# Altium schematic symbol library m68k.SchLib: 102 symbols (part 2 of 3)
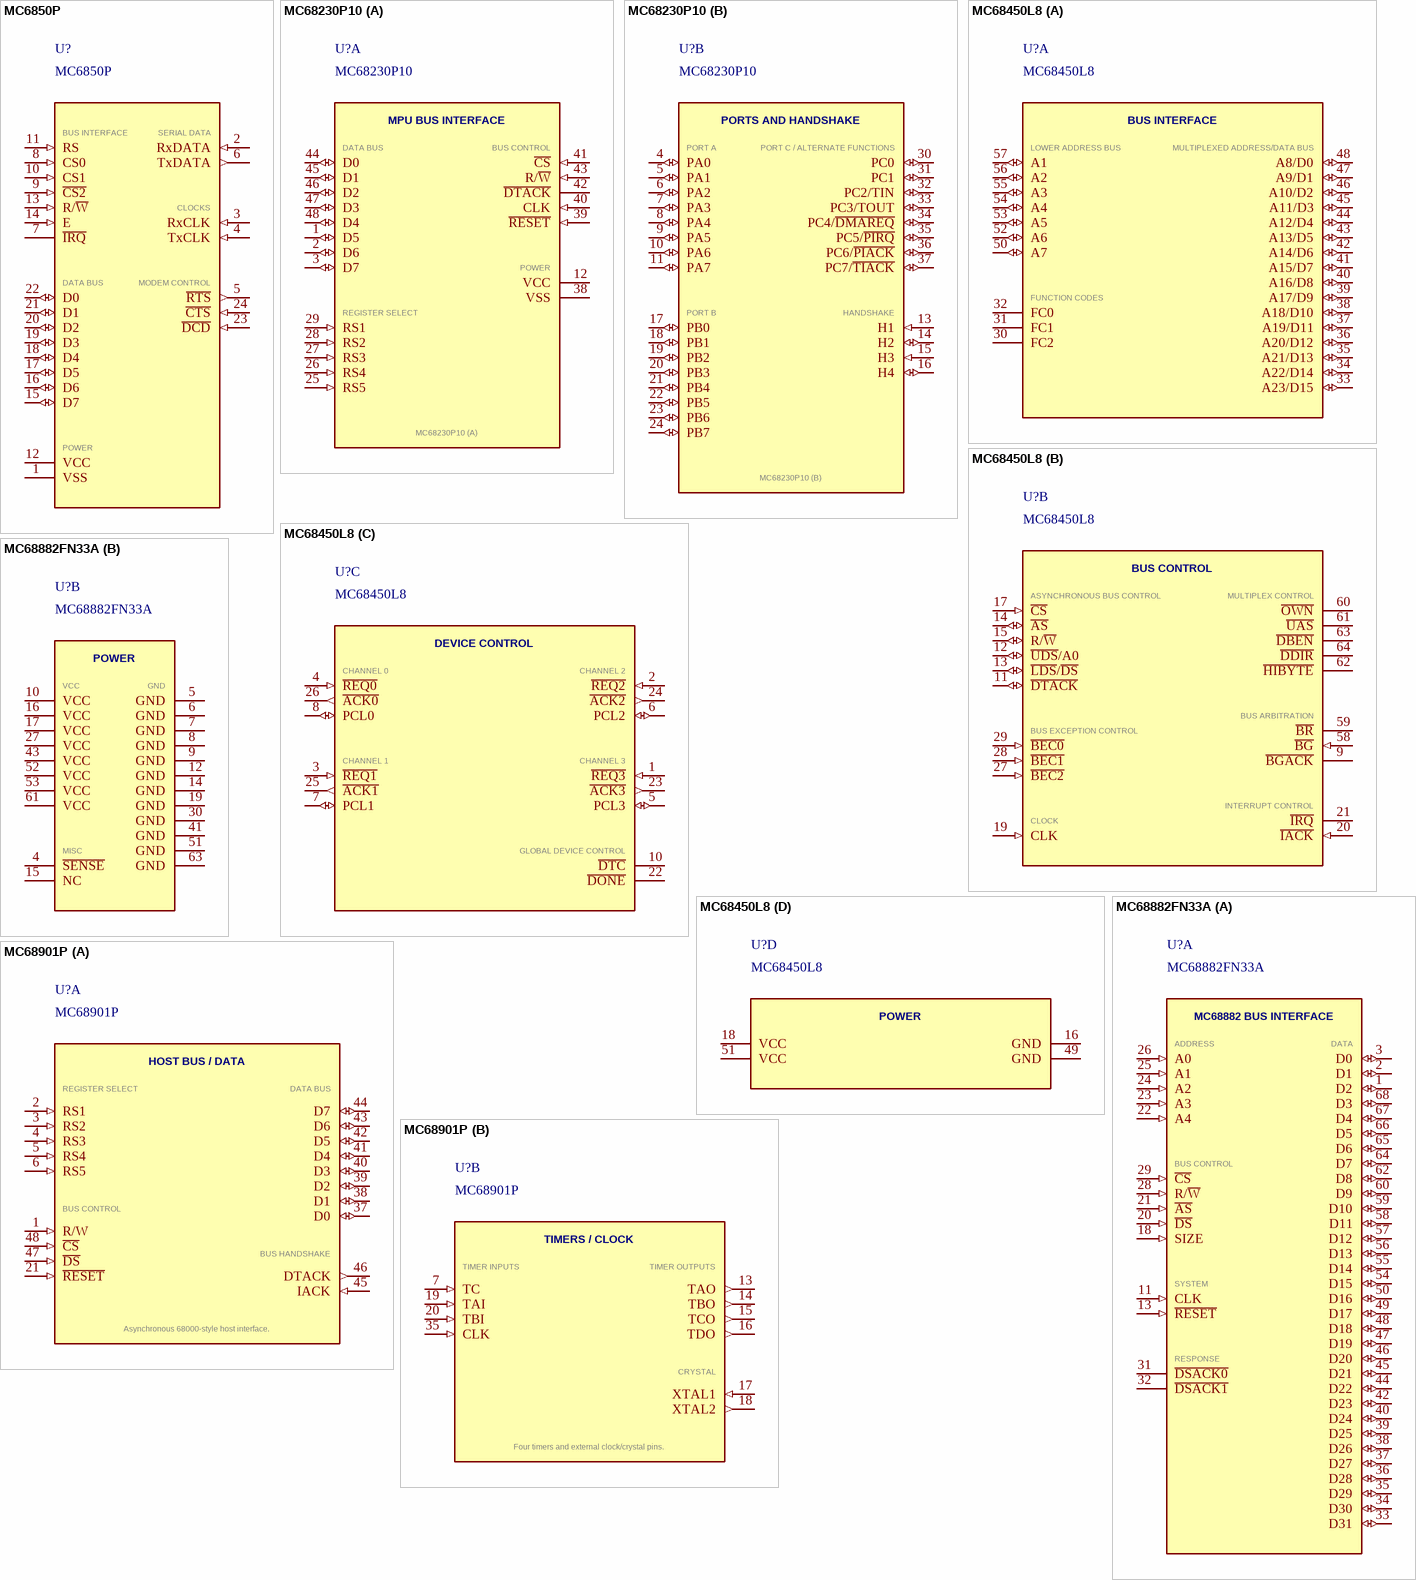
[diagram p6: symbols MC6850P to MC68901P]

## MC68450L8
designator U?
Motorola MC68450 Direct Memory Access Controller (DMAC), 8 MHz, 4 independent DMA channels, 24-bit address / 16-bit data multiplexed M68000 bus; Symbol Parts: A: BUS INTERFACE; B: BUS CONTROL; C: DEVICE CONTROL; D: POWER; Manufacturer: Motorola; Manufacturer Part Number: MC68450L8; Package: 64-lead ceramic dual-in-line (L suffix, DIP-64); Datasheet: MC68450L8.pdf - M68000 Family Reference Manual, MC68450 Technical Summary, pages 6-39..6-74
footprint 110-43-964-41-001000 (Mill-Max 110-43-964-41-001000, 64-position (2 x 32) DIP socket, screw-machine pin receptacles, 2.54 mm (.100") pitch, 22.86 mm (.900") row spacing, through hole. Body 81.2 x 25.3 mm per Mill-Max 110 series drawing. 64 plated 0.90 mm holes / 1.60 mm round pads; pad 1 square. Origin at body center, top view. Pin 1 top left, DIP numbering counter-clockwise. TopOverlay silkscreen, M2 component outline, M9 assembly, M11 designator, M15 courtyard.)
part A pins: 30 FC2 (hiz) "Function code bit 2. Three-state output, active high, qualifies the DMA-mode address to select one of eight address spaces.", 31 FC1 (hiz) "Function code bit 1. Three-state output, active high, qualifies the DMA-mode address to select one of eight address spaces.", 32 FC0 (hiz) "Function code bit 0. Three-state output, active high, qualifies the DMA-mode address to select one of eight address spaces.", 33 A23/D15 (io) "Time-multiplexed address bit 23 / data bit 15. Three-state; demultiplexed externally under UAS/DBEN/DDIR control.", 34 A22/D14 (io) "Time-multiplexed address bit 22 / data bit 14. Three-state; demultiplexed externally under UAS/DBEN/DDIR control.", 35 A21/D13 (io) "Time-multiplexed address bit 21 / data bit 13. Three-state; demultiplexed externally under UAS/DBEN/DDIR control.", 36 A20/D12 (io) "Time-multiplexed address bit 20 / data bit 12. Three-state; demultiplexed externally under UAS/DBEN/DDIR control.", 37 A19/D11 (io) "Time-multiplexed address bit 19 / data bit 11. Three-state; demultiplexed externally under UAS/DBEN/DDIR control.", 38 A18/D10 (io) "Time-multiplexed address bit 18 / data bit 10. Three-state; demultiplexed externally under UAS/DBEN/DDIR control.", 39 A17/D9 (io) "Time-multiplexed address bit 17 / data bit 9. Three-state; demultiplexed externally under UAS/DBEN/DDIR control.", 40 A16/D8 (io) "Time-multiplexed address bit 16 / data bit 8. Three-state; demultiplexed externally under UAS/DBEN/DDIR control.", 41 A15/D7 (io) "Time-multiplexed address bit 15 / data bit 7. Three-state; demultiplexed externally under UAS/DBEN/DDIR control.", 42 A14/D6 (io) "Time-multiplexed address bit 14 / data bit 6. Three-state; demultiplexed externally under UAS/DBEN/DDIR control.", 43 A13/D5 (io) "Time-multiplexed address bit 13 / data bit 5. Three-state; demultiplexed externally under UAS/DBEN/DDIR control.", 44 A12/D4 (io) "Time-multiplexed address bit 12 / data bit 4. Three-state; demultiplexed externally under UAS/DBEN/DDIR control.", 45 A11/D3 (io) "Time-multiplexed address bit 11 / data bit 3. Three-state; demultiplexed externally under UAS/DBEN/DDIR control.", 46 A10/D2 (io) "Time-multiplexed address bit 10 / data bit 2. Three-state; demultiplexed externally under UAS/DBEN/DDIR control.", 47 A9/D1 (io) "Time-multiplexed address bit 9 / data bit 1. Three-state; demultiplexed externally under UAS/DBEN/DDIR control.", 48 A8/D0 (io) "Time-multiplexed address bit 8 / data bit 0. Three-state; demultiplexed externally under UAS/DBEN/DDIR control.", 50 A7 (io) "Lower address bus bit 7. Bidirectional three-state: addresses internal DMAC registers in MPU mode, drives lower address in DMA mode.", 52 A6 (io) "Lower address bus bit 6. Bidirectional three-state: addresses internal DMAC registers in MPU mode, drives lower address in DMA mode.", 53 A5 (io) "Lower address bus bit 5. Bidirectional three-state: addresses internal DMAC registers in MPU mode, drives lower address in DMA mode.", 54 A4 (io) "Lower address bus bit 4. Bidirectional three-state: addresses internal DMAC registers in MPU mode, drives lower address in DMA mode.", 55 A3 (io) "Lower address bus bit 3. Bidirectional three-state: addresses internal DMAC registers in MPU mode, drives lower address in DMA mode.", 56 A2 (io) "Lower address bus bit 2. Bidirectional three-state: addresses internal DMAC registers in MPU mode, drives lower address in DMA mode.", 57 A1 (io) "Lower address bus bit 1. Bidirectional three-state: addresses internal DMAC registers in MPU mode, drives lower address in DMA mode."
part B pins: 9 ~{BGACK} (oc) "Bus grant acknowledge. Active-low open-drain bidirectional; asserted by the DMAC to claim bus mastership and monitored as an input to detect other masters. Requires an external pullup.", 11 ~{DTACK} (io) "Data transfer acknowledge. Active-low bidirectional three-state; output in MPU mode, input in DMA mode. Requires an external pullup.", 12 ~{UDS}/A0 (io) "Upper data strobe in 16-bit mode (active low); address bit 0 in 8-bit mode. Bidirectional three-state, requires an external pullup.", 13 ~{LDS}/~{DS} (io) "Lower data strobe in 16-bit mode; data strobe in 8-bit mode. Active-low bidirectional three-state, requires an external pullup.", 14 ~{AS} (io) "Address strobe. Active-low bidirectional three-state; output in DMA mode, input in MPU/IDLE modes. Requires an external pullup.", 15 R/~{W} (io) "Read/write. Bidirectional three-state; high = read, low = write. Requires an external pullup.", 17 ~{CS} (in) "Chip select. Active-low input; selects the DMAC for an MPU bus cycle. Generate by qualifying an address decode with the address and data strobes.", 19 CLK (in) "Clock input. TTL-compatible; must not be gated off and must meet the minimum and maximum pulse-width specifications.", 20 ~{IACK} (in) "Interrupt acknowledge. Active-low input from the MPU; the DMAC responds by placing a vector on D0-D7.", 21 ~{IRQ} (oc) "Interrupt request. Active-low open-drain output asserted by the DMAC to request service from the MPU. Requires an external pullup.", 27 ~{BEC2} (in) "Bus exception control bit 2. Active-low input; encoded abnormal bus condition (bus error, reset, halt, retry).", 28 ~{BEC1} (in) "Bus exception control bit 1. Active-low input; encoded abnormal bus condition (bus error, reset, halt, retry).", 29 ~{BEC0} (in) "Bus exception control bit 0. Active-low input; encoded abnormal bus condition (bus error, reset, halt, retry).", 58 ~{BG} (in) "Bus grant. Active-low input from an external bus arbiter. The DMAC takes the bus only after CS, IACK, AS and BGACK are all negated.", 59 ~{BR} (oc) "Bus request. Active-low open-drain output asserted by the DMAC to request control of the bus.", 60 ~{OWN} (oc) "Bus ownership. Active-low output; enables the external address drivers and control-signal buffers when the DMAC controls the bus. Requires an external pullup.", 61 ~{UAS} (hiz) "Upper address strobe. Active-low three-state output; gates the transparent latches that capture A8-A23 from the multiplexed address/data bus. Requires an external pullup.", 62 ~{HIBYTE} (hiz) "High byte. Active-low three-state output; indicates data on D8-D15 must be transferred to/from D0-D7 through an external buffer during a single-address transfer with an 8-bit device. Requires an external pullup.", 63 ~{DBEN} (hiz) "Data buffer enable. Active-low three-state output; enables the external bidirectional data buffers. Requires an external pullup.", 64 ~{DDIR} (hiz) "Data direction. Three-state output controlling the external bidirectional data buffers; high = DMAC to data bus, low = data bus to DMAC. Requires an external pullup."
part C pins: 1 ~{REQ3} (in) "Channel 3 transfer request. Active-low input from the peripheral; edge sensitive in cycle-steal request mode, level sensitive in burst mode.", 2 ~{REQ2} (in) "Channel 2 transfer request. Active-low input from the peripheral; edge sensitive in cycle-steal request mode, level sensitive in burst mode.", 3 ~{REQ1} (in) "Channel 1 transfer request. Active-low input from the peripheral; edge sensitive in cycle-steal request mode, level sensitive in burst mode.", 4 ~{REQ0} (in) "Channel 0 transfer request. Active-low input from the peripheral; edge sensitive in cycle-steal request mode, level sensitive in burst mode.", 5 PCL3 (io) "Channel 3 peripheral control line. Bidirectional three-state, programmed polarity/function: ready, abort, reload, status, interrupt or enable clock input, or start pulse output.", 6 PCL2 (io) "Channel 2 peripheral control line. Bidirectional three-state, programmed polarity/function: ready, abort, reload, status, interrupt or enable clock input, or start pulse output.", 7 PCL1 (io) "Channel 1 peripheral control line. Bidirectional three-state, programmed polarity/function: ready, abort, reload, status, interrupt or enable clock input, or start pulse output.", 8 PCL0 (io) "Channel 0 peripheral control line. Bidirectional three-state, programmed polarity/function: ready, abort, reload, status, interrupt or enable clock input, or start pulse output.", 10 ~{DTC} (hiz) "Data transfer complete. Active-low three-state output asserted during any DMAC bus cycle in which data was transferred successfully. Requires an external pullup.", 22 ~{DONE} (oc) "Done. Active-low open-drain bidirectional, asserted by the DMAC or the peripheral to mark the last item in a block. A 1k-2k ohm pullup is required to prevent interchannel interaction.", 23 ~{ACK3} (out) "Channel 3 acknowledge. Active-low, always-driven output signalling that an operand is being transferred for a previous request.", 24 ~{ACK2} (out) "Channel 2 acknowledge. Active-low, always-driven output signalling that an operand is being transferred for a previous request.", 25 ~{ACK1} (out) "Channel 1 acknowledge. Active-low, always-driven output signalling that an operand is being transferred for a previous request.", 26 ~{ACK0} (out) "Channel 0 acknowledge. Active-low, always-driven output signalling that an operand is being transferred for a previous request."
part D pins: 16 GND (power) "Ground. Both GND pins must be connected.", 18 VCC (power) "+5 V supply. Both VCC pins must be connected.", 49 GND (power) "Ground. Both GND pins must be connected.", 51 VCC (power) "+5 V supply. Both VCC pins must be connected."
part A text: BUS INTERFACE; LOWER ADDRESS BUS; MULTIPLEXED ADDRESS/DATA BUS; FUNCTION CODES
part B text: BUS CONTROL; ASYNCHRONOUS BUS CONTROL; MULTIPLEX CONTROL; BUS ARBITRATION; BUS EXCEPTION CONTROL; INTERRUPT CONTROL; CLOCK
part C text: DEVICE CONTROL; CHANNEL 0; CHANNEL 2; CHANNEL 1; CHANNEL 3; GLOBAL DEVICE CONTROL
part D text: POWER

## MC68882FN33A
designator U?
MC68882 Floating-Point Coprocessor, 33 MHz, 68-pin PLCC (FN); Manufacturer: Motorola (now NXP); Symbol Parts: A: MC68882 BUS INTERFACE; B: POWER; Manufacturer Part Number: MC68882FN33A; Package: 68-pin PLCC (FN suffix); Datasheet: Pinout from user-supplied MC68882 PLCC top-view diagram
footprint A-CCS-068-Z-T (Assmann A-CCS 068-Z-T, PLCC-68 THT socket for MC68EC000; ASS 0981 CO rev11; body 30.80 x 30.80 mm; 2.54 mm PCB grid; 68 plated 0.80 mm holes / 1.60 mm pads; pin 1 top center, top view; M2 component outline, M9 assembly, M11 designator, M15 courtyard; user component layer pairs; maximum height 8.43 mm.)
part A pins: 1 D2 (io), 2 D1 (io), 3 D0 (io), 11 CLK (in) "Clock", 13 ~{RESET} (in) "Reset", 18 SIZE (in) "Bus size select; used with A0 to set 8/16/32-bit port size. Shown without overbar in the supplied diagram.", 20 ~{DS} (in) "Data strobe", 21 ~{AS} (in) "Address strobe", 22 A4 (in), 23 A3 (in), 24 A2 (in), 25 A1 (in), 26 A0 (in), 28 R/~{W} (in) "Read/write", 29 ~{CS} (in) "Chip select", 31 ~{DSACK0} (hiz) "Data transfer and size acknowledge 0", 32 ~{DSACK1} (hiz) "Data transfer and size acknowledge 1", 33 D31 (io), 34 D30 (io), 35 D29 (io), 36 D28 (io), 37 D27 (io), 38 D26 (io), 39 D25 (io), 40 D24 (io), 42 D23 (io), 44 D22 (io), 45 D21 (io), 46 D20 (io), 47 D19 (io), 48 D18 (io), 49 D17 (io), 50 D16 (io), 54 D15 (io), 55 D14 (io), 56 D13 (io), 57 D12 (io), 58 D11 (io), 59 D10 (io), 60 D9 (io), 62 D8 (io), 64 D7 (io), 65 D6 (io), 66 D5 (io), 67 D4 (io), 68 D3 (io)
part B pins: 4 ~{SENSE} "Device sense; internally connected to die GND. May be used as an extra GND or as a presence indicator.", 5 GND (power), 6 GND (power), 7 GND (power), 8 GND (power), 9 GND (power), 10 VCC (power), 12 GND (power), 14 GND (power), 15 NC "No connect", 16 VCC (power), 17 VCC (power), 19 GND (power), 27 VCC (power), 30 GND (power), 41 GND (power), 43 VCC (power), 51 GND (power), 52 VCC (power), 53 VCC (power), 61 VCC (power), 63 GND (power)
part A text: MC68882 BUS INTERFACE; ADDRESS; DATA; BUS CONTROL; SYSTEM; RESPONSE
part B text: POWER; MISC

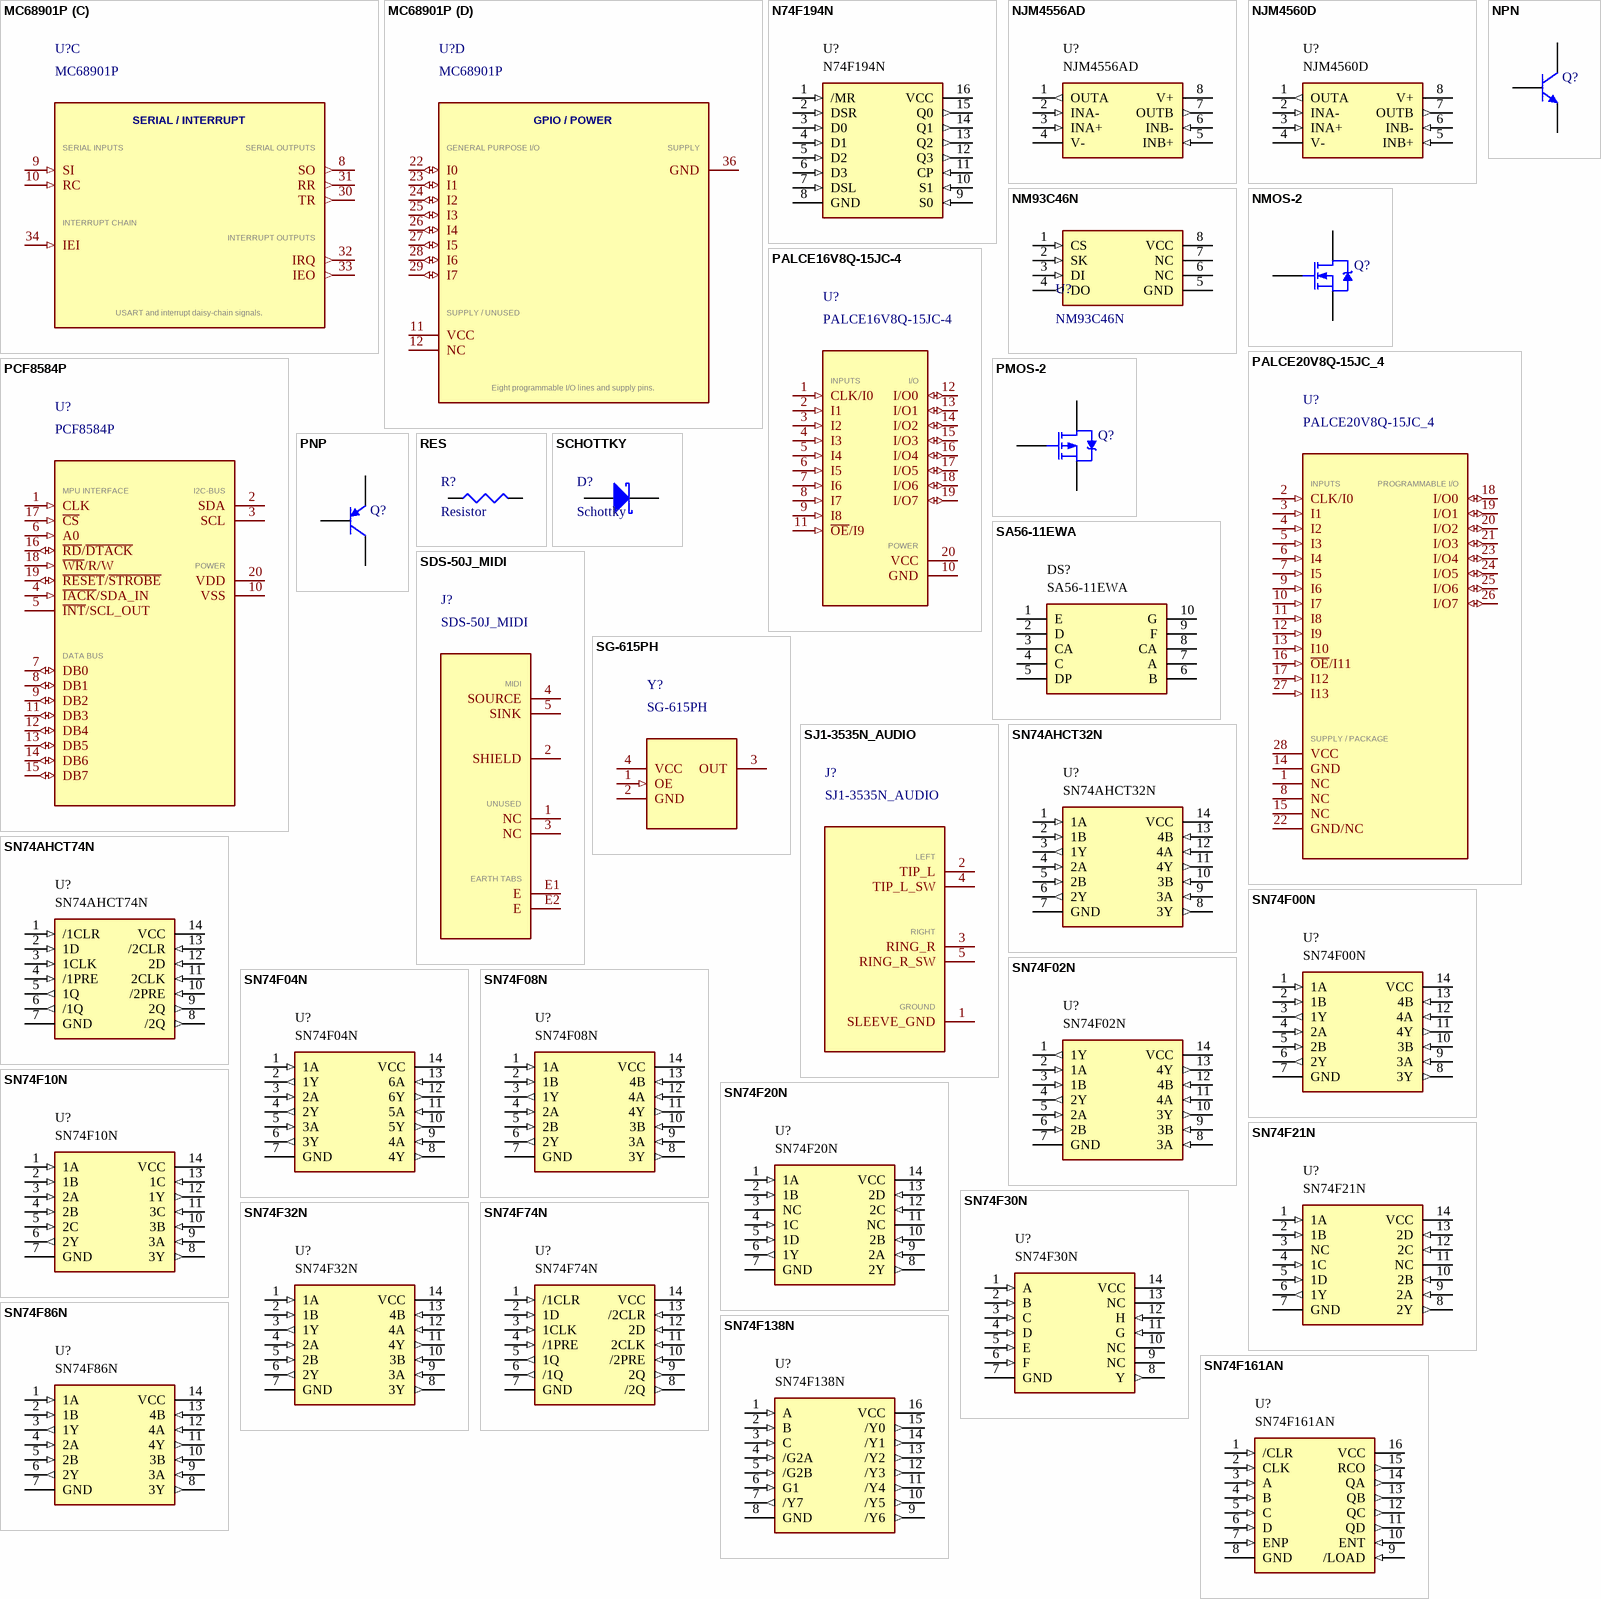
[diagram p4: symbols MC68901P to SN74F161AN]

## MC68901P
designator U?
Motorola MC68901P Multi-Function Peripheral (MFP), 48-pin plastic DIP. Four functional symbol parts with all physical pins visible.; Symbol Parts: A: HOST BUS / DATA; B: TIMERS / CLOCK; C: SERIAL / INTERRUPT; D: GPIO / POWER; Pin Source: User-supplied 48-pin top-view diagram cross-checked against the MC68HC901/MC68901 User's Manual.; Active-Low Pins: CS#, DS#, RESET#; Manufacturer: Motorola; Manufacturer Part Number: MC68901P; Package: 48-pin PDIP (Case 767-01); Datasheet: https://www.nxp.com/docs/en/reference-manual/MC68901UM.pdf
footprint 110-93-648-41-001000 (Mill-Max 110 open-frame DIP socket; 48 pins; pitch 2.54mm; row 15.24mm; plated hole 0.80mm; pad 1.60mm; center origin)
part A pins: 1 R/W (in) "Read/write control input.", 2 RS1 (in) "Register select input.", 3 RS2 (in) "Register select input.", 4 RS3 (in) "Register select input.", 5 RS4 (in) "Register select input.", 6 RS5 (in) "Register select input.", 21 ~{RESET} (in) "Active-low hardware reset.", 37 D0 (io) "Bidirectional data bus.", 38 D1 (io) "Bidirectional data bus.", 39 D2 (io) "Bidirectional data bus.", 40 D3 (io) "Bidirectional data bus.", 41 D4 (io) "Bidirectional data bus.", 42 D5 (io) "Bidirectional data bus.", 43 D6 (io) "Bidirectional data bus.", 44 D7 (io) "Bidirectional data bus.", 45 IACK (in) "Interrupt-acknowledge input.", 46 DTACK (out) "Data-transfer acknowledge output.", 47 ~{DS} (in) "Active-low data strobe.", 48 ~{CS} (in) "Active-low chip select."
part B pins: 7 TC (in) "Timer clock input.", 13 TAO (out) "Timer A output.", 14 TBO (out) "Timer B output.", 15 TCO (out) "Timer C output.", 16 TDO (out) "Timer D output.", 17 XTAL1 (in) "Crystal/clock input.", 18 XTAL2 (out) "Crystal oscillator output.", 19 TAI (in) "Timer A input.", 20 TBI (in) "Timer B input.", 35 CLK (in) "System clock input."
part C pins: 8 SO (out) "Serial data output.", 9 SI (in) "Serial data input.", 10 RC (in) "Receive clock input.", 30 TR (out) "Transmitter-ready output.", 31 RR (out) "Receiver-ready output.", 32 IRQ (out) "Interrupt request output.", 33 IEO (out) "Interrupt-enable output for daisy chain.", 34 IEI (in) "Interrupt-enable input for daisy chain."
part D pins: 11 VCC (power) "+5 V supply.", 12 NC "No connect; leave unconnected.", 22 I0 (io) "General-purpose I/O bit 0.", 23 I1 (io) "General-purpose I/O bit 1.", 24 I2 (io) "General-purpose I/O bit 2.", 25 I3 (io) "General-purpose I/O bit 3.", 26 I4 (io) "General-purpose I/O bit 4.", 27 I5 (io) "General-purpose I/O bit 5.", 28 I6 (io) "General-purpose I/O bit 6.", 29 I7 (io) "General-purpose I/O bit 7.", 36 GND (power) "Ground connection."
part A text: HOST BUS / DATA; REGISTER SELECT; DATA BUS; BUS CONTROL; BUS HANDSHAKE; Asynchronous 68000-style host interface.
part B text: TIMERS / CLOCK; TIMER INPUTS; TIMER OUTPUTS; CRYSTAL; Four timers and external clock/crystal pins.
part C text: SERIAL / INTERRUPT; SERIAL INPUTS; SERIAL OUTPUTS; INTERRUPT CHAIN; INTERRUPT OUTPUTS; USART and interrupt daisy-chain signals.
part D text: GPIO / POWER; GENERAL PURPOSE I/O; SUPPLY; SUPPLY / UNUSED; Eight programmable I/O lines and supply pins.

## N74F194N
designator U?
4-bit bidirectional universal shift register; SourcePDF: 74f194.pdf; fairchild-fast-1980.pdf; SourcePages: 1; ReviewNotes: DIP map; review active-low notation and electrical types before PCB use.; ReviewStatus: DRAFT - user review pending; Package: DIP-16
footprint 110-93-316-41-001000 (Mill-Max 110 open-frame DIP socket; 16 pins; pitch 2.54mm; row 7.62mm; plated hole 0.80mm; pad 1.60mm; center origin)
pins: 1 /MR (in), 2 DSR (in), 3 D0 (in), 4 D1 (in), 5 D2 (in), 6 D3 (in), 7 DSL (in), 8 GND (power), 9 S0 (in), 10 S1 (in), 11 CP (in), 12 Q3 (out), 13 Q2 (out), 14 Q1 (out), 15 Q0 (out), 16 VCC (power)

## NJM4556AD
designator U?
Dual high-current operational amplifier; SourcePDF: NJM4556A_E.pdf; SourcePages: 1; ReviewNotes: Draft symbol; user pinout review pending.; ReviewStatus: DRAFT - user review pending; Package: DIP-8
footprint 110-93-308-41-001000 (Mill-Max 110 open-frame DIP socket; 8 pins; pitch 2.54mm; row 7.62mm; plated hole 0.80mm; pad 1.60mm; center origin)
pins: 1 OUTA (out), 2 INA- (in), 3 INA+ (in), 4 V- (power), 5 INB+ (in), 6 INB- (in), 7 OUTB (out), 8 V+ (power)

## NJM4560D
designator U?
Dual operational amplifier; SourcePDF: NJM4556A_E.pdf; SourcePages: 1; ReviewNotes: Draft symbol; user pinout review pending.; ReviewStatus: DRAFT - user review pending; Package: DIP-8
footprint 110-93-308-41-001000 (Mill-Max 110 open-frame DIP socket; 8 pins; pitch 2.54mm; row 7.62mm; plated hole 0.80mm; pad 1.60mm; center origin)
pins: 1 OUTA (out), 2 INA- (in), 3 INA+ (in), 4 V- (power), 5 INB+ (in), 6 INB- (in), 7 OUTB (out), 8 V+ (power)

## NM93C46N
designator U?
footprint 110-93-308-41-001000 (Mill-Max 110 open-frame DIP socket; 8 pins; pitch 2.54mm; row 7.62mm; plated hole 0.80mm; pad 1.60mm; center origin)
pins: 1 CS (in), 2 SK (in), 3 DI (in), 4 DO (out), 5 GND (power), 6 NC, 7 NC, 8 VCC (power)

## NMOS-2
designator Q?
N-Channel Power MOSFET; Note: Pin 2 is electrically connected to pin 4.; Published: 8-Jun-2000; LatestRevisionDate: 17-Jul-2002; LatestRevisionNote: Re-released for DXP Platform.; DatasheetVersion: PD-9.814; PackageVersion: Feb-1997; PackageReference: TO-220AB; Publisher: Altium Limited; PackageDescription: TO, Thru-Hole, Vertical, Heatsink Mounted; 3 In-Line Leads; Pitch 2.54 mm; ComponentLink1Description: Manufacturer Link; ComponentLink1URL: http://www.irf.com/
pins: 1 G, 2 D, 3 S

## NPN
designator Q?
NPN Bipolar Transistor; Published: 8-Jun-2000; LatestRevisionDate: 17-Jul-2002; LatestRevisionNote: Re-released for DXP Platform.; PackageReference: TO-226-AA; Publisher: Altium Limited; PackageDescription: TO, Flat Index; 3 In-Line, Axial Leads; Body Dia. 4.8mm; Leads 0.55 x 0.51 mm (max); Code_JEDEC: TO-226-AA
pins: 1 C, 2 B, 3 E

## PALCE16V8Q-15JC-4
designator U?
CMOS EE Programmable Array Logic, 16 array inputs / 8 versatile outputs, quarter power, 15 ns tPD, commercial, 20-pin PLCC. Ordering MPN PALCE16V8Q-15JC/4 (/4 = first-revision programming algorithm).; Manufacturer: Advanced Micro Devices; Manufacturer Part Number: PALCE16V8Q-15JC/4; Package: PLCC-20
footprint A-CCS-020-Z-T (Assmann WSW A-CCS 020-Z-T, PLCC-20 THT socket; drawing ASS 0981 CO rev11 sheet 1/2. From drawing: body 15.45 x 15.45 mm, 2.54 mm PCB grid, 20 plated 0.80 mm holes, max height 8.21 mm. Chosen (not on drawing): 1.60 mm round pads (square on pin 1), 0.075 mm mask expansion. Pin 1 top centre, top view, origin at body centre; JEDEC PLCC counter-clockwise numbering (drawing shows no pin numbers). M2 component outline, M9 assembly, M11 designator, M15 courtyard.)
pins: 1 CLK/I0 (in) "Registered mode: clock. Combinatorial mode: dedicated input I0", 2 I1 (in), 3 I2 (in), 4 I3 (in), 5 I4 (in), 6 I5 (in), 7 I6 (in), 8 I7 (in), 9 I8 (in), 10 GND (power), 11 ~{OE}/I9 (in) "Registered mode: active-low output enable for the registered outputs. Combinatorial mode: dedicated input I9", 12 I/O0 (io), 13 I/O1 (io), 14 I/O2 (io), 15 I/O3 (io), 16 I/O4 (io), 17 I/O5 (io), 18 I/O6 (io), 19 I/O7 (io), 20 VCC (power)
text: INPUTS; I/O; POWER

## PALCE20V8Q-15JC_4
designator U?
PALCE20V8Q-15JC/4, quarter-power programmable logic device, 28-pin PLCC (top-view pin numbering); Manufacturer: Lattice Semiconductor; Manufacturer Part Number: PALCE20V8Q-15JC/4; Package: PLCC-28 (PL028); Datasheet: https://www.latticesemi.com/-/media/LatticeSemi/Documents/DataSheets/PAL/PALCE20V8DataSheet.ashx?la=en
footprint A-CCS-028-Z-T (ASSMANN WSW 28-contact PLCC THT socket; ASS 0981 CO rev11 sheet 2. 18 x 18 mm body; 7.62 mm inner grid span; 2.54 mm tail pitch. Numbering assumes pin 1 at top near center and counterclockwise sequence; source does not label the tails. Copper pads 1.60 mm are a layout choice; drawing specifies 0.80 mm drill only.)
pins: 1 NC, 2 CLK/I0 (in), 3 I1 (in), 4 I2 (in), 5 I3 (in), 6 I4 (in), 7 I5 (in), 8 NC, 9 I6 (in), 10 I7 (in), 11 I8 (in), 12 I9 (in), 13 I10 (in), 14 GND (power), 15 NC, 16 ~{OE}/I11 (in) "Output enable (active low), or general input I11, according to programmed mode.", 17 I12 (in), 18 I/O0 (io), 19 I/O1 (io), 20 I/O2 (io), 21 I/O3 (io), 22 GND/NC "Manufacturer diagram labels this package pin GND/NC*; its designation depends on device variant. Do not treat it as the primary ground pin.", 23 I/O4 (io), 24 I/O5 (io), 25 I/O6 (io), 26 I/O7 (io), 27 I13 (in), 28 VCC (power)
text: INPUTS; PROGRAMMABLE I/O; SUPPLY / PACKAGE

## PCF8584P
designator U?
I2C-bus controller, parallel microcontroller bus to I2C-bus interface, DIP20; Manufacturer: NXP Semiconductors (Philips); Manufacturer Part Number: PCF8584P; Package: DIP20 (SOT146-1), plastic dual in-line, 20 leads, 300 mil; Datasheet: https://www.nxp.com/docs/en/data-sheet/PCF8584.pdf
footprint 110-93-320-41-001000 (Mill-Max 110 open-frame DIP socket; 20 pins; pitch 2.54mm; row 7.62mm; plated hole 0.80mm; pad 1.60mm; center origin)
pins: 1 CLK (in) "Clock input from the microcontroller clock generator; internal pull-up. Must be running for RESET to take effect.", 2 SDA (oc) "I2C-bus serial data input/output, open-drain; needs an external pull-up. In long distance mode this pin is the unidirectional serial data output SDA OUT.", 3 SCL (oc) "I2C-bus serial clock input/output, open-drain; needs an external pull-up. In long distance mode this pin is the unidirectional serial clock input SCL IN.", 4 ~{IACK}/SDA_IN (in) "Interrupt acknowledge input, active LOW; internal pull-up. In long distance mode this pin is the serial data input SDA IN.", 5 ~{INT}/SCL_OUT (oc) "Interrupt output, open-drain, active LOW, enabled by the ENI flag. In long distance mode this pin is the serial clock output SCL OUT and ENI must be 0.", 6 A0 (in) "Register select input; internal pull-up. Logic 1 selects register S1; logic 0 selects one of the other registers depending on bits ES0, ES1 and ES2 in S1.", 7 DB0 (io) "Bidirectional microcontroller data bus bit 0.", 8 DB1 (io) "Bidirectional microcontroller data bus bit 1.", 9 DB2 (io) "Bidirectional microcontroller data bus bit 2.", 10 VSS (power) "Ground.", 11 DB3 (io) "Bidirectional microcontroller data bus bit 3.", 12 DB4 (io) "Bidirectional microcontroller data bus bit 4.", 13 DB5 (io) "Bidirectional microcontroller data bus bit 5.", 14 DB6 (io) "Bidirectional microcontroller data bus bit 6.", 15 DB7 (io) "Bidirectional microcontroller data bus bit 7.", 16 ~{RD}/~{DTACK} (io) "Read control input (active LOW) for MAB8049, MAB8051 and Z80 type buses; open-drain DTACK acknowledge output in 68000 bus mode.", 17 ~{CS} (in) "Chip select input, active LOW; internal pull-up.", 18 ~{WR}/R/W (in) "Write control input (active LOW) for MAB8048, MAB8051 and Z80 type buses; R/W control input for 68000 buses. Internal pull-up.", 19 ~{RESET}/~{STROBE} (io) "Open-drain. Reset input, active LOW (CLK must run). Also a monostable active-LOW strobe output, 8 clock cycles long, when addressed by its own or the general call address followed by a STOP.", 20 VDD (power) "Supply voltage, 5 V nominal."
text: MPU INTERFACE; I2C-BUS; POWER; DATA BUS

## PMOS-2
designator Q?
P-Channel Power MOSFET; Note: Pin 4 not drawn and electrically connected to Pin 2.; Published: 8-Jun-2000; LatestRevisionDate: 17-Jul-2002; LatestRevisionNote: Re-released for DXP Platform.; DatasheetVersion: PD-9.390D; PackageVersion: Feb-1997; PackageReference: TO-220AB; Publisher: Altium Limited; PackageDescription: TO, Thru-Hole, Vertical, Heatsink Mounted; 3 In-Line Leads; Pitch 2.54 mm; ComponentLink1Description: Manufacturer Link; ComponentLink1URL: http://www.irf.com/
pins: 1 G, 2 D, 3 S

## PNP
designator Q?
PNP Bipolar Transistor; Published: 8-Jun-2000; LatestRevisionDate: 29-May-2009; LatestRevisionNote: IPC-7351 Footprint Added.; PackageVersion: Aug-1999; PackageReference: SOT-23B; Publisher: Altium Limited; PackageDescription: 3-Pin SOT-23 Package 0.95 mm Pitch, 2.4 mm Lead Span
pins: 1 C, 2 B, 3 E

## RES
designator R?, comment Resistor
pins: 1, 2

## SA56-11EWA
designator DS?
0.56-inch common-anode seven-segment LED display; SourcePDF: SA56-11EWA.pdf; SourcePages: 1; ReviewNotes: CA pins 3 and 8; both are visible.; ReviewStatus: DRAFT - user review pending; Package: 10-pin through-hole display
pins: 1 E, 2 D, 3 CA, 4 C, 5 DP, 6 B, 7 A, 8 CA, 9 F, 10 G

## SCHOTTKY
designator D?, comment Schottky
pins: 1 A, 2 K

## SDS-50J_MIDI
designator J?
Same Sky SDS-50J 5-pin 180 deg DIN socket, right angle PCB mount, with MIDI 1.0 pin names. Pins 1-5 per SDS-J datasheet; E1/E2 are the two earth (ground) tabs, both labelled E in the datasheet.; Manufacturer: Same Sky (formerly CUI Devices); Manufacturer Part Number: SDS-50J; Package: DIN 5-pin 180 deg, right angle THT; Datasheet: SDS-J datasheet rev 1.08, 09/12/2024
footprint SDS-50J (Same Sky SDS-50J 5-pin 180 deg DIN socket, right angle THT. Top view; origin = midpoint of mounting holes; mating face toward -Y (board edge side), front face at y=-7.5.)
pins: 1 NC "Not used by MIDI; leave unconnected", 2 SHIELD "Cable shield. OUT/THRU: tie to ground. IN: no DC path to receiver ground (MIDI CA-033)", 3 NC "Not used by MIDI; leave unconnected", 4 SOURCE "MIDI current source. OUT/THRU: to +5 V via 220 ohm (33 ohm at 3.3 V). IN: to opto-isolator anode via 220 ohm", 5 SINK "MIDI current sink. OUT/THRU: to UART TX via 220 ohm (10 ohm at 3.3 V). IN: to opto-isolator cathode", E1 E "Earth/ground tab (datasheet 'E')", E2 E "Earth/ground tab (datasheet 'E')"
text: MIDI; UNUSED; EARTH TABS

## SG-615PH
designator Y?
Crystal oscillator (SPXO), 26.001-66.667 MHz, 5.0 V +/-0.5 V, CMOS output, output enable, SG-615 J-lead SMD 14.0 x 9.8 mm; Manufacturer: Epson Toyocom; Manufacturer Part Number: SG-615PH; Package: SG-615 (4-pin J-lead SMD, 14.0 x 9.8 x 4.7 mm max); Datasheet: SG615PH_en.pdf (Epson Toyocom SG-615/531/51 series), page 2 pin map
footprint SG-615_JLEAD_14.0x9.8 (Epson Toyocom SG-615 series 4-pin J-lead SMD oscillator (SG-615PH). Manufacturer recommended land: 4 x 1.3 x 3.0 mm pads, 5.08 mm pitch (X), 8.8 mm row spacing (Y, pad centres). Body 14.0 x 8.65 mm, 9.8 mm max over leads, 4.7 mm max height. Origin at body centre, top view, pin 1 bottom left. M2 component outline, M9 assembly, M11 designator, M13 3D body, M15 courtyard.)
pins: 1 OE (in) "Output enable. H or open: specified frequency output; L: output high impedance", 2 GND (power) "Ground", 3 OUT (hiz) "Clock output, CMOS; high impedance when OE = L", 4 VCC (power) "Supply, 5.0 V +/-0.5 V"

## SJ1-3535N_AUDIO
designator J?
Same Sky SJ1-3535N 3.5 mm stereo audio jack, right angle THT, tip and ring switches (normally closed, open on plug insertion). Audio names: tip = left, ring = right, sleeve = ground.; Manufacturer: Same Sky (formerly CUI Devices); Manufacturer Part Number: SJ1-3535N; Package: 3.5 mm jack, right angle THT, slotted pins; Datasheet: SJ1-353XN datasheet rev 1.04, 09/12/2024
footprint SJ1-3535N (Same Sky SJ1-3535N 3.5 mm audio jack, right angle THT. Top view; origin = plug axis at housing front face; opening toward +Y (bushing 4.0 mm, dia 6.0).)
pins: 1 SLEEVE_GND "Sleeve contact: audio ground/return", 2 TIP_L "Tip contact: left channel", 3 RING_R "Ring contact: right channel", 4 TIP_L_SW "Tip switch: closed to pin 2 with no plug, opens when a plug is inserted", 5 RING_R_SW "Ring switch: closed to pin 3 with no plug, opens when a plug is inserted"
text: LEFT; RIGHT; GROUND

## SN74AHCT32N
designator U?
Quad 2-input OR; SourcePDF: sn74ahct32.pdf; SourcePages: 3; ReviewNotes: DIP map; review active-low notation and electrical types before PCB use.; ReviewStatus: DRAFT - user review pending; Package: DIP-14
footprint 110-93-314-41-001000 (Mill-Max 110 open-frame DIP socket; 14 pins; pitch 2.54mm; row 7.62mm; plated hole 0.80mm; pad 1.60mm; center origin)
pins: 1 1A (in), 2 1B (in), 3 1Y (out), 4 2A (in), 5 2B (in), 6 2Y (out), 7 GND (power), 8 3Y (out), 9 3A (in), 10 3B (in), 11 4Y (out), 12 4A (in), 13 4B (in), 14 VCC (power)

## SN74AHCT74N
designator U?
Dual D flip-flop with preset and clear; SourcePDF: sn74ahct74.pdf; SourcePages: 3; ReviewNotes: DIP map; review active-low notation and electrical types before PCB use.; ReviewStatus: DRAFT - user review pending; Package: DIP-14
footprint 110-93-314-41-001000 (Mill-Max 110 open-frame DIP socket; 14 pins; pitch 2.54mm; row 7.62mm; plated hole 0.80mm; pad 1.60mm; center origin)
pins: 1 /1CLR (in), 2 1D (in), 3 1CLK (in), 4 /1PRE (in), 5 1Q (out), 6 /1Q (out), 7 GND (power), 8 /2Q (out), 9 2Q (out), 10 /2PRE (in), 11 2CLK (in), 12 2D (in), 13 /2CLR (in), 14 VCC (power)

## SN74F00N
designator U?
Quad 2-input NAND; SourcePDF: sn74f00.pdf; fairchild-fast-1980.pdf; SourcePages: 1; ReviewNotes: DIP map; review active-low notation and electrical types before PCB use.; ReviewStatus: DRAFT - user review pending; Package: DIP-14
footprint 110-93-314-41-001000 (Mill-Max 110 open-frame DIP socket; 14 pins; pitch 2.54mm; row 7.62mm; plated hole 0.80mm; pad 1.60mm; center origin)
pins: 1 1A (in), 2 1B (in), 3 1Y (out), 4 2A (in), 5 2B (in), 6 2Y (out), 7 GND (power), 8 3Y (out), 9 3A (in), 10 3B (in), 11 4Y (out), 12 4A (in), 13 4B (in), 14 VCC (power)

## SN74F02N
designator U?
Quad 2-input NOR; SourcePDF: sn74f02.pdf; fairchild-fast-1980.pdf; SourcePages: 1; ReviewNotes: DIP map; review active-low notation and electrical types before PCB use.; ReviewStatus: DRAFT - user review pending; Package: DIP-14
footprint 110-93-314-41-001000 (Mill-Max 110 open-frame DIP socket; 14 pins; pitch 2.54mm; row 7.62mm; plated hole 0.80mm; pad 1.60mm; center origin)
pins: 1 1Y (out), 2 1A (in), 3 1B (in), 4 2Y (out), 5 2A (in), 6 2B (in), 7 GND (power), 8 3A (in), 9 3B (in), 10 3Y (out), 11 4A (in), 12 4B (in), 13 4Y (out), 14 VCC (power)

## SN74F04N
designator U?
Hex inverter; SourcePDF: sn74f04.pdf; fairchild-fast-1980.pdf; SourcePages: 1; ReviewNotes: DIP map; review active-low notation and electrical types before PCB use.; ReviewStatus: DRAFT - user review pending; Package: DIP-14
footprint 110-93-314-41-001000 (Mill-Max 110 open-frame DIP socket; 14 pins; pitch 2.54mm; row 7.62mm; plated hole 0.80mm; pad 1.60mm; center origin)
pins: 1 1A (in), 2 1Y (out), 3 2A (in), 4 2Y (out), 5 3A (in), 6 3Y (out), 7 GND (power), 8 4Y (out), 9 4A (in), 10 5Y (out), 11 5A (in), 12 6Y (out), 13 6A (in), 14 VCC (power)

## SN74F08N
designator U?
Quad 2-input AND; SourcePDF: sn74f08.pdf; fairchild-fast-1980.pdf; SourcePages: 1; ReviewNotes: DIP map; review active-low notation and electrical types before PCB use.; ReviewStatus: DRAFT - user review pending; Package: DIP-14
footprint 110-93-314-41-001000 (Mill-Max 110 open-frame DIP socket; 14 pins; pitch 2.54mm; row 7.62mm; plated hole 0.80mm; pad 1.60mm; center origin)
pins: 1 1A (in), 2 1B (in), 3 1Y (out), 4 2A (in), 5 2B (in), 6 2Y (out), 7 GND (power), 8 3Y (out), 9 3A (in), 10 3B (in), 11 4Y (out), 12 4A (in), 13 4B (in), 14 VCC (power)

## SN74F10N
designator U?
Triple 3-input NAND; SourcePDF: sn74f10.pdf; fairchild-fast-1980.pdf; SourcePages: 1; ReviewNotes: DIP map; review active-low notation and electrical types before PCB use.; ReviewStatus: DRAFT - user review pending; Package: DIP-14
footprint 110-93-314-41-001000 (Mill-Max 110 open-frame DIP socket; 14 pins; pitch 2.54mm; row 7.62mm; plated hole 0.80mm; pad 1.60mm; center origin)
pins: 1 1A (in), 2 1B (in), 3 2A (in), 4 2B (in), 5 2C (in), 6 2Y (out), 7 GND (power), 8 3Y (out), 9 3A (in), 10 3B (in), 11 3C (in), 12 1Y (out), 13 1C (in), 14 VCC (power)

## SN74F20N
designator U?
Dual 4-input NAND; SourcePDF: sn74f20.pdf; fairchild-fast-1980.pdf; SourcePages: 1; ReviewNotes: DIP map; review active-low notation and electrical types before PCB use.; ReviewStatus: DRAFT - user review pending; Package: DIP-14
footprint 110-93-314-41-001000 (Mill-Max 110 open-frame DIP socket; 14 pins; pitch 2.54mm; row 7.62mm; plated hole 0.80mm; pad 1.60mm; center origin)
pins: 1 1A (in), 2 1B (in), 3 NC, 4 1C (in), 5 1D (in), 6 1Y (out), 7 GND (power), 8 2Y (out), 9 2A (in), 10 2B (in), 11 NC, 12 2C (in), 13 2D (in), 14 VCC (power)

## SN74F21N
designator U?
Dual 4-input AND; SourcePDF: sn74f21.pdf; SourcePages: 1; ReviewNotes: DIP map; review active-low notation and electrical types before PCB use.; ReviewStatus: DRAFT - user review pending; Package: DIP-14
footprint 110-93-314-41-001000 (Mill-Max 110 open-frame DIP socket; 14 pins; pitch 2.54mm; row 7.62mm; plated hole 0.80mm; pad 1.60mm; center origin)
pins: 1 1A (in), 2 1B (in), 3 NC, 4 1C (in), 5 1D (in), 6 1Y (out), 7 GND (power), 8 2Y (out), 9 2A (in), 10 2B (in), 11 NC, 12 2C (in), 13 2D (in), 14 VCC (power)

## SN74F30N
designator U?
8-input NAND; SourcePDF: sn74f30.pdf; SourcePages: 1; ReviewNotes: DIP map; review active-low notation and electrical types before PCB use.; ReviewStatus: DRAFT - user review pending; Package: DIP-14
footprint 110-93-314-41-001000 (Mill-Max 110 open-frame DIP socket; 14 pins; pitch 2.54mm; row 7.62mm; plated hole 0.80mm; pad 1.60mm; center origin)
pins: 1 A (in), 2 B (in), 3 C (in), 4 D (in), 5 E (in), 6 F (in), 7 GND (power), 8 Y (out), 9 NC, 10 NC, 11 G (in), 12 H (in), 13 NC, 14 VCC (power)

## SN74F32N
designator U?
Quad 2-input OR; SourcePDF: sn74f32.pdf; fairchild-fast-1980.pdf; SourcePages: 1; ReviewNotes: DIP map; review active-low notation and electrical types before PCB use.; ReviewStatus: DRAFT - user review pending; Package: DIP-14
footprint 110-93-314-41-001000 (Mill-Max 110 open-frame DIP socket; 14 pins; pitch 2.54mm; row 7.62mm; plated hole 0.80mm; pad 1.60mm; center origin)
pins: 1 1A (in), 2 1B (in), 3 1Y (out), 4 2A (in), 5 2B (in), 6 2Y (out), 7 GND (power), 8 3Y (out), 9 3A (in), 10 3B (in), 11 4Y (out), 12 4A (in), 13 4B (in), 14 VCC (power)

## SN74F74N
designator U?
Dual D flip-flop with preset and clear; SourcePDF: sn74f74.pdf; fairchild-fast-1980.pdf; SourcePages: 1; ReviewNotes: DIP map; review active-low notation and electrical types before PCB use.; ReviewStatus: DRAFT - user review pending; Package: DIP-14
footprint 110-93-314-41-001000 (Mill-Max 110 open-frame DIP socket; 14 pins; pitch 2.54mm; row 7.62mm; plated hole 0.80mm; pad 1.60mm; center origin)
pins: 1 /1CLR (in), 2 1D (in), 3 1CLK (in), 4 /1PRE (in), 5 1Q (out), 6 /1Q (out), 7 GND (power), 8 /2Q (out), 9 2Q (out), 10 /2PRE (in), 11 2CLK (in), 12 2D (in), 13 /2CLR (in), 14 VCC (power)

## SN74F86N
designator U?
Quad 2-input XOR; SourcePDF: sn74f86.pdf; SourcePages: 1; ReviewNotes: DIP map; review active-low notation and electrical types before PCB use.; ReviewStatus: DRAFT - user review pending; Package: DIP-14
footprint 110-93-314-41-001000 (Mill-Max 110 open-frame DIP socket; 14 pins; pitch 2.54mm; row 7.62mm; plated hole 0.80mm; pad 1.60mm; center origin)
pins: 1 1A (in), 2 1B (in), 3 1Y (out), 4 2A (in), 5 2B (in), 6 2Y (out), 7 GND (power), 8 3Y (out), 9 3A (in), 10 3B (in), 11 4Y (out), 12 4A (in), 13 4B (in), 14 VCC (power)

## SN74F138N
designator U?
3-to-8 decoder/demultiplexer; SourcePDF: sn74f138.pdf; SourcePages: 1; ReviewNotes: DIP map; review active-low notation and electrical types before PCB use.; ReviewStatus: DRAFT - user review pending; Package: DIP-16
footprint 110-93-316-41-001000 (Mill-Max 110 open-frame DIP socket; 16 pins; pitch 2.54mm; row 7.62mm; plated hole 0.80mm; pad 1.60mm; center origin)
pins: 1 A (in), 2 B (in), 3 C (in), 4 /G2A (in), 5 /G2B (in), 6 G1 (in), 7 /Y7 (out), 8 GND (power), 9 /Y6 (out), 10 /Y5 (out), 11 /Y4 (out), 12 /Y3 (out), 13 /Y2 (out), 14 /Y1 (out), 15 /Y0 (out), 16 VCC (power)

## SN74F161AN
designator U?
Synchronous binary counter, asynchronous clear; SourcePDF: sn74f161a.pdf; SourcePages: 1; ReviewNotes: DIP map; review active-low notation and electrical types before PCB use.; ReviewStatus: DRAFT - user review pending; Package: DIP-16
footprint 110-93-316-41-001000 (Mill-Max 110 open-frame DIP socket; 16 pins; pitch 2.54mm; row 7.62mm; plated hole 0.80mm; pad 1.60mm; center origin)
pins: 1 /CLR (in), 2 CLK (in), 3 A (in), 4 B (in), 5 C (in), 6 D (in), 7 ENP (in), 8 GND (power), 9 /LOAD (in), 10 ENT (in), 11 QD (out), 12 QC (out), 13 QB (out), 14 QA (out), 15 RCO (out), 16 VCC (power)

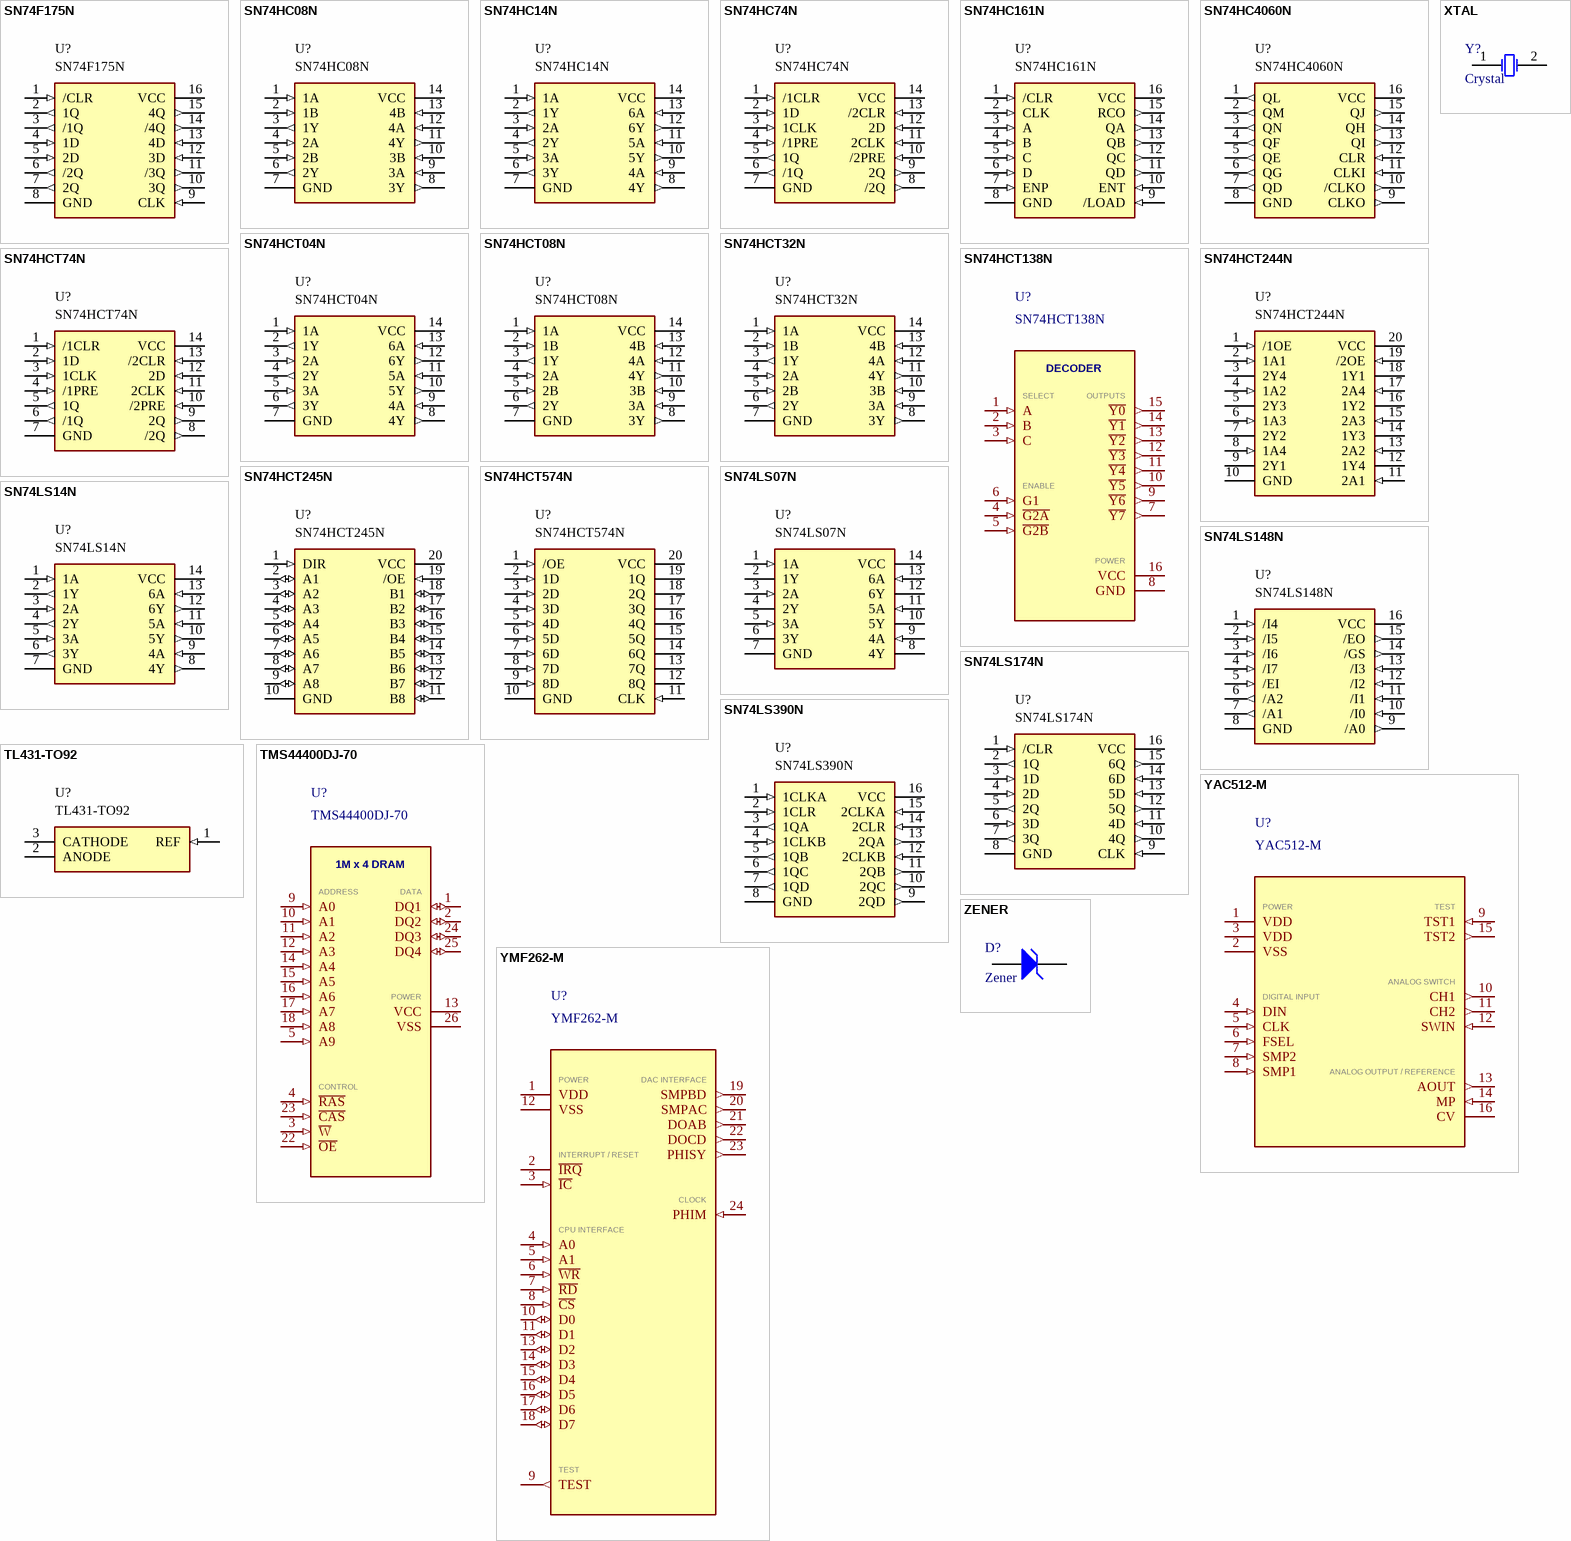
[diagram p5: symbols SN74F175N to ZENER]

## SN74F175N
designator U?
Quad D flip-flop with complementary outputs and clear; SourcePDF: sn74f175.pdf; fairchild-fast-1980.pdf; SourcePages: 1; ReviewNotes: DIP map; review active-low notation and electrical types before PCB use.; ReviewStatus: DRAFT - user review pending; Package: DIP-16
footprint 110-93-316-41-001000 (Mill-Max 110 open-frame DIP socket; 16 pins; pitch 2.54mm; row 7.62mm; plated hole 0.80mm; pad 1.60mm; center origin)
pins: 1 /CLR (in), 2 1Q (out), 3 /1Q (out), 4 1D (in), 5 2D (in), 6 /2Q (out), 7 2Q (out), 8 GND (power), 9 CLK (in), 10 3Q (out), 11 /3Q (out), 12 3D (in), 13 4D (in), 14 /4Q (out), 15 4Q (out), 16 VCC (power)

## SN74HC08N
designator U?
Quad 2-input AND; SourcePDF: sn74hc08.pdf; SourcePages: 3; ReviewNotes: DIP map; review active-low notation and electrical types before PCB use.; ReviewStatus: DRAFT - user review pending; Package: DIP-14
footprint 110-93-314-41-001000 (Mill-Max 110 open-frame DIP socket; 14 pins; pitch 2.54mm; row 7.62mm; plated hole 0.80mm; pad 1.60mm; center origin)
pins: 1 1A (in), 2 1B (in), 3 1Y (out), 4 2A (in), 5 2B (in), 6 2Y (out), 7 GND (power), 8 3Y (out), 9 3A (in), 10 3B (in), 11 4Y (out), 12 4A (in), 13 4B (in), 14 VCC (power)

## SN74HC14N
designator U?
Hex Schmitt-trigger inverter; SourcePDF: sn74hc14.pdf; SourcePages: 3; ReviewNotes: DIP map; review active-low notation and electrical types before PCB use.; ReviewStatus: DRAFT - user review pending; Package: DIP-14
footprint 110-93-314-41-001000 (Mill-Max 110 open-frame DIP socket; 14 pins; pitch 2.54mm; row 7.62mm; plated hole 0.80mm; pad 1.60mm; center origin)
pins: 1 1A (in), 2 1Y (out), 3 2A (in), 4 2Y (out), 5 3A (in), 6 3Y (out), 7 GND (power), 8 4Y (out), 9 4A (in), 10 5Y (out), 11 5A (in), 12 6Y (out), 13 6A (in), 14 VCC (power)

## SN74HC74N
designator U?
Dual D flip-flop with preset and clear; SourcePDF: sn74hc74.pdf; SourcePages: 3; ReviewNotes: DIP map; review active-low notation and electrical types before PCB use.; ReviewStatus: DRAFT - user review pending; Package: DIP-14
footprint 110-93-314-41-001000 (Mill-Max 110 open-frame DIP socket; 14 pins; pitch 2.54mm; row 7.62mm; plated hole 0.80mm; pad 1.60mm; center origin)
pins: 1 /1CLR (in), 2 1D (in), 3 1CLK (in), 4 /1PRE (in), 5 1Q (out), 6 /1Q (out), 7 GND (power), 8 /2Q (out), 9 2Q (out), 10 /2PRE (in), 11 2CLK (in), 12 2D (in), 13 /2CLR (in), 14 VCC (power)

## SN74HC161N
designator U?
Synchronous binary counter, asynchronous clear; SourcePDF: sn74hc161.pdf; SourcePages: 3; ReviewNotes: DIP map; review active-low notation and electrical types before PCB use.; ReviewStatus: DRAFT - user review pending; Package: DIP-16
footprint 110-93-316-41-001000 (Mill-Max 110 open-frame DIP socket; 16 pins; pitch 2.54mm; row 7.62mm; plated hole 0.80mm; pad 1.60mm; center origin)
pins: 1 /CLR (in), 2 CLK (in), 3 A (in), 4 B (in), 5 C (in), 6 D (in), 7 ENP (in), 8 GND (power), 9 /LOAD (in), 10 ENT (in), 11 QD (out), 12 QC (out), 13 QB (out), 14 QA (out), 15 RCO (out), 16 VCC (power)

## SN74HC4060N
designator U?
14-stage ripple counter with oscillator; SourcePDF: sn74hc4060.pdf; SourcePages: 1; ReviewNotes: DIP map; review active-low notation and electrical types before PCB use.; ReviewStatus: DRAFT - user review pending; Package: DIP-16
footprint 110-93-316-41-001000 (Mill-Max 110 open-frame DIP socket; 16 pins; pitch 2.54mm; row 7.62mm; plated hole 0.80mm; pad 1.60mm; center origin)
pins: 1 QL (out), 2 QM (out), 3 QN (out), 4 QF (out), 5 QE (out), 6 QG (out), 7 QD (out), 8 GND (power), 9 CLKO (out), 10 /CLKO (out), 11 CLKI (in), 12 CLR (in), 13 QI (out), 14 QH (out), 15 QJ (out), 16 VCC (power)

## SN74HCT04N
designator U?
Hex inverter; SourcePDF: sn54hct04.pdf; SourcePages: 3; ReviewNotes: DIP map; review active-low notation and electrical types before PCB use.; ReviewStatus: DRAFT - user review pending; Package: DIP-14
footprint 110-93-314-41-001000 (Mill-Max 110 open-frame DIP socket; 14 pins; pitch 2.54mm; row 7.62mm; plated hole 0.80mm; pad 1.60mm; center origin)
pins: 1 1A (in), 2 1Y (out), 3 2A (in), 4 2Y (out), 5 3A (in), 6 3Y (out), 7 GND (power), 8 4Y (out), 9 4A (in), 10 5Y (out), 11 5A (in), 12 6Y (out), 13 6A (in), 14 VCC (power)

## SN74HCT08N
designator U?
Quad 2-input AND; SourcePDF: sn74hct08.pdf; SourcePages: 3; ReviewNotes: DIP map; review active-low notation and electrical types before PCB use.; ReviewStatus: DRAFT - user review pending; Package: DIP-14
footprint 110-93-314-41-001000 (Mill-Max 110 open-frame DIP socket; 14 pins; pitch 2.54mm; row 7.62mm; plated hole 0.80mm; pad 1.60mm; center origin)
pins: 1 1A (in), 2 1B (in), 3 1Y (out), 4 2A (in), 5 2B (in), 6 2Y (out), 7 GND (power), 8 3Y (out), 9 3A (in), 10 3B (in), 11 4Y (out), 12 4A (in), 13 4B (in), 14 VCC (power)

## SN74HCT32N
designator U?
Quad 2-input OR; SourcePDF: sn74hct32.pdf; SourcePages: 3; ReviewNotes: DIP map; review active-low notation and electrical types before PCB use.; ReviewStatus: DRAFT - user review pending; Package: DIP-14
footprint 110-93-314-41-001000 (Mill-Max 110 open-frame DIP socket; 14 pins; pitch 2.54mm; row 7.62mm; plated hole 0.80mm; pad 1.60mm; center origin)
pins: 1 1A (in), 2 1B (in), 3 1Y (out), 4 2A (in), 5 2B (in), 6 2Y (out), 7 GND (power), 8 3Y (out), 9 3A (in), 10 3B (in), 11 4Y (out), 12 4A (in), 13 4B (in), 14 VCC (power)

## SN74HCT74N
designator U?
Dual D flip-flop with preset and clear; SourcePDF: sn74hct74.pdf; SourcePages: 3; ReviewNotes: DIP map; review active-low notation and electrical types before PCB use.; ReviewStatus: DRAFT - user review pending; Package: DIP-14
footprint 110-93-314-41-001000 (Mill-Max 110 open-frame DIP socket; 14 pins; pitch 2.54mm; row 7.62mm; plated hole 0.80mm; pad 1.60mm; center origin)
pins: 1 /1CLR (in), 2 1D (in), 3 1CLK (in), 4 /1PRE (in), 5 1Q (out), 6 /1Q (out), 7 GND (power), 8 /2Q (out), 9 2Q (out), 10 /2PRE (in), 11 2CLK (in), 12 2D (in), 13 /2CLR (in), 14 VCC (power)

## SN74HCT138N
designator U?
3-line to 8-line decoder/demultiplexer, TTL-compatible inputs, PDIP-16; Manufacturer: Texas Instruments; Symbol Parts: A: DECODER; Manufacturer Part Number: SN74HCT138N; Package: PDIP-16 (N); Datasheet: https://www.ti.com/lit/ds/symlink/sn74hct138.pdf
footprint 110-93-316-41-001000 (Mill-Max 110 open-frame DIP socket; 16 pins; pitch 2.54mm; row 7.62mm; plated hole 0.80mm; pad 1.60mm; center origin)
pins: 1 A (in), 2 B (in), 3 C (in), 4 ~{G2A} (in), 5 ~{G2B} (in), 6 G1 (in), 7 ~{Y7} (out), 8 GND (power), 9 ~{Y6} (out), 10 ~{Y5} (out), 11 ~{Y4} (out), 12 ~{Y3} (out), 13 ~{Y2} (out), 14 ~{Y1} (out), 15 ~{Y0} (out), 16 VCC (power)
text: DECODER; SELECT; OUTPUTS; ENABLE; POWER

## SN74HCT244N
designator U?
Octal non-inverting tri-state buffer; SourcePDF: sn74hct244.pdf; SourcePages: 3; ReviewNotes: DIP map; review active-low notation and electrical types before PCB use.; ReviewStatus: DRAFT - user review pending; Package: DIP-20
footprint 110-93-320-41-001000 (Mill-Max 110 open-frame DIP socket; 20 pins; pitch 2.54mm; row 7.62mm; plated hole 0.80mm; pad 1.60mm; center origin)
pins: 1 /1OE (in), 2 1A1 (in), 3 2Y4 (hiz), 4 1A2 (in), 5 2Y3 (hiz), 6 1A3 (in), 7 2Y2 (hiz), 8 1A4 (in), 9 2Y1 (hiz), 10 GND (power), 11 2A1 (in), 12 1Y4 (hiz), 13 2A2 (in), 14 1Y3 (hiz), 15 2A3 (in), 16 1Y2 (hiz), 17 2A4 (in), 18 1Y1 (hiz), 19 /2OE (in), 20 VCC (power)

## SN74HCT245N
designator U?
Octal bidirectional bus transceiver; SourcePDF: sn74hct245.pdf; SourcePages: 3; ReviewNotes: DIP map; review active-low notation and electrical types before PCB use.; ReviewStatus: DRAFT - user review pending; Package: DIP-20
footprint 110-93-320-41-001000 (Mill-Max 110 open-frame DIP socket; 20 pins; pitch 2.54mm; row 7.62mm; plated hole 0.80mm; pad 1.60mm; center origin)
pins: 1 DIR (in), 2 A1 (io), 3 A2 (io), 4 A3 (io), 5 A4 (io), 6 A5 (io), 7 A6 (io), 8 A7 (io), 9 A8 (io), 10 GND (power), 11 B8 (io), 12 B7 (io), 13 B6 (io), 14 B5 (io), 15 B4 (io), 16 B3 (io), 17 B2 (io), 18 B1 (io), 19 /OE (in), 20 VCC (power)

## SN74HCT574N
designator U?
Octal D flip-flop with tri-state outputs; SourcePDF: sn74hct574.pdf; SourcePages: 3; ReviewNotes: The PDF p.3 pin-function table appears copied from a 244. Used the 574 diagram/function pinout: OE=1, CLK=11, D=2..9, Q=19..12.; ReviewStatus: DRAFT - user review pending; Package: DIP-20
footprint 110-93-320-41-001000 (Mill-Max 110 open-frame DIP socket; 20 pins; pitch 2.54mm; row 7.62mm; plated hole 0.80mm; pad 1.60mm; center origin)
pins: 1 /OE (in), 2 1D (in), 3 2D (in), 4 3D (in), 5 4D (in), 6 5D (in), 7 6D (in), 8 7D (in), 9 8D (in), 10 GND (power), 11 CLK (in), 12 8Q (hiz), 13 7Q (hiz), 14 6Q (hiz), 15 5Q (hiz), 16 4Q (hiz), 17 3Q (hiz), 18 2Q (hiz), 19 1Q (hiz), 20 VCC (power)

## SN74LS07N
designator U?
Hex non-inverting open-collector buffer; SourcePDF: sn74ls07.pdf; SourcePages: 1; ReviewNotes: DIP map; review active-low notation and electrical types before PCB use.; ReviewStatus: DRAFT - user review pending; Package: DIP-14
footprint 110-93-314-41-001000 (Mill-Max 110 open-frame DIP socket; 14 pins; pitch 2.54mm; row 7.62mm; plated hole 0.80mm; pad 1.60mm; center origin)
pins: 1 1A (in), 2 1Y (oc), 3 2A (in), 4 2Y (oc), 5 3A (in), 6 3Y (oc), 7 GND (power), 8 4Y (oc), 9 4A (in), 10 5Y (oc), 11 5A (in), 12 6Y (oc), 13 6A (in), 14 VCC (power)

## SN74LS14N
designator U?
Hex Schmitt-trigger inverter; SourcePDF: sn74ls14.pdf; SourcePages: 1; ReviewNotes: DIP map; review active-low notation and electrical types before PCB use.; ReviewStatus: DRAFT - user review pending; Package: DIP-14
footprint 110-93-314-41-001000 (Mill-Max 110 open-frame DIP socket; 14 pins; pitch 2.54mm; row 7.62mm; plated hole 0.80mm; pad 1.60mm; center origin)
pins: 1 1A (in), 2 1Y (out), 3 2A (in), 4 2Y (out), 5 3A (in), 6 3Y (out), 7 GND (power), 8 4Y (out), 9 4A (in), 10 5Y (out), 11 5A (in), 12 6Y (out), 13 6A (in), 14 VCC (power)

## SN74LS148N
designator U?
8-to-3 priority encoder; SourcePDF: sn74ls148.pdf; SourcePages: 1; ReviewNotes: DIP map; review active-low notation and electrical types before PCB use.; ReviewStatus: DRAFT - user review pending; Package: DIP-16
footprint 110-93-316-41-001000 (Mill-Max 110 open-frame DIP socket; 16 pins; pitch 2.54mm; row 7.62mm; plated hole 0.80mm; pad 1.60mm; center origin)
pins: 1 /I4 (in), 2 /I5 (in), 3 /I6 (in), 4 /I7 (in), 5 /EI (in), 6 /A2 (out), 7 /A1 (out), 8 GND (power), 9 /A0 (out), 10 /I0 (in), 11 /I1 (in), 12 /I2 (in), 13 /I3 (in), 14 /GS (out), 15 /EO (out), 16 VCC (power)

## SN74LS174N
designator U?
Hex D flip-flop with common clear; SourcePDF: sn74ls174.pdf; SourcePages: 2; ReviewNotes: DIP map; review active-low notation and electrical types before PCB use.; ReviewStatus: DRAFT - user review pending; Package: DIP-16
pins: 1 /CLR (in), 2 1Q (out), 3 1D (in), 4 2D (in), 5 2Q (out), 6 3D (in), 7 3Q (out), 8 GND (power), 9 CLK (in), 10 4Q (out), 11 4D (in), 12 5Q (out), 13 5D (in), 14 6D (in), 15 6Q (out), 16 VCC (power)

## SN74LS390N
designator U?
Dual decade ripple counter; SourcePDF: sn74ls390.pdf; SourcePages: 2; ReviewNotes: DIP map; review active-low notation and electrical types before PCB use.; ReviewStatus: DRAFT - user review pending; Package: DIP-16
footprint 110-93-316-41-001000 (Mill-Max 110 open-frame DIP socket; 16 pins; pitch 2.54mm; row 7.62mm; plated hole 0.80mm; pad 1.60mm; center origin)
pins: 1 1CLKA (in), 2 1CLR (in), 3 1QA (out), 4 1CLKB (in), 5 1QB (out), 6 1QC (out), 7 1QD (out), 8 GND (power), 9 2QD (out), 10 2QC (out), 11 2QB (out), 12 2CLKB (in), 13 2QA (out), 14 2CLR (in), 15 2CLKA (in), 16 VCC (power)

## TL431-TO92
designator U?
Adjustable shunt reference; SourcePDF: tl431.pdf; SourcePages: 4; ReviewNotes: Package-specific numbering. SUBSTRATE must connect to ANODE or remain open. SOT-89 tab is ANODE.; ReviewStatus: DRAFT - user review pending; Package: TO-92
footprint TO-92-3
pins: 1 REF (in), 2 ANODE, 3 CATHODE